# EAGLE library part 14PIN (library FaBo-Breakout)
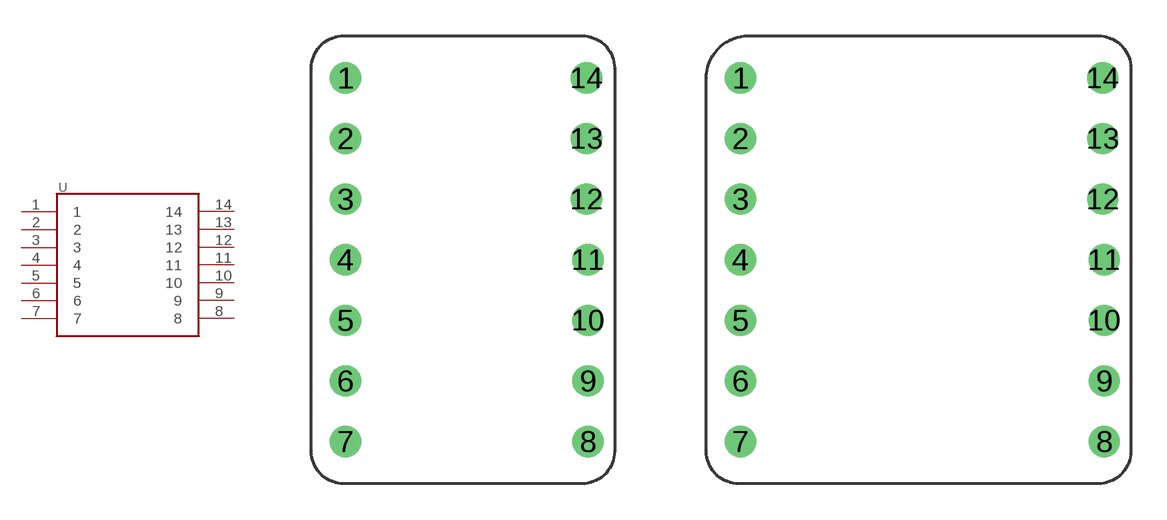
[diagram p1: symbol with the pads of 14PIN; footprints 14PIN, 14PIN-WIDE]

Designator prefix -

## 14PINNORMAL  [14PIN]
1  1
2  2
3  3
4  4
5  5
6  6
7  7
8  8
9  9
10  10
11  11
12  12
13  13
14  14

## 14PINWIDE  [14PIN-WIDE]
Pads as for 14PIN

## Footprint 14PIN (pad centres in mm)
drill 0.8: 1 -4.92,7.62; 2 -4.92,5.08; 3 -4.92,2.54; 4 -4.92,0; 5 -4.92,-2.54; 6 -4.92,-5.08; 7 -4.92,-7.62; 8 5.24,-7.62; 9 5.24,-5.08; 10 5.24,-2.54; 11 5.24,0; 12 5.18,2.54; 13 5.18,5.08; 14 5.18,7.62

## Footprint 14PIN-WIDE (pad centres in mm)
drill 0.8: 1 -7.46,7.62; 2 -7.46,5.08; 3 -7.46,2.54; 4 -7.46,0; 5 -7.46,-2.54; 6 -7.46,-5.08; 7 -7.46,-7.62; 8 7.78,-7.62; 9 7.78,-5.08; 10 7.78,-2.54; 11 7.78,0; 12 7.72,2.54; 13 7.72,5.08; 14 7.72,7.62